# Altium schematic symbol library Schlib1.SchLib: 1 symbol
Pins are listed as number, name and electrical type; pins without a type are passive.

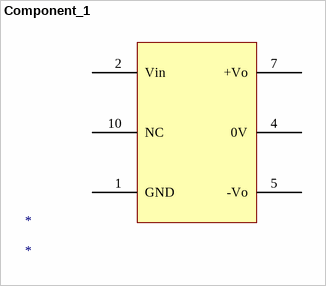
[diagram p0: symbol Component_1]

## Component_1
designator *
pins: 1 GND (power), 2 Vin (power), 4 0V, 5 -Vo (power), 7 +Vo, 10 NC